# Altium footprint library Assembly3D.PcbLib: 32 footprints (part 1 of 2)
Each footprint in its own frame and in the unit in brackets; x right, y up, seen from the top. Pads: shape width x height; smd on the part's side, far side on the other; paste and mask are expansions set on the pad; w line width, h text height; cw(c..) or ccw(c..) is an arc to the next point about the centre after c.

## BRASS_PIN_M3_H5MM [mm]
3D body "BrassPinM3_H5mm.stp": height 5, standoff 0, extent -2.75,-3.175 2.75,3.175

## BRASS_PIN_M3_H5MM_B6MM [mm]
3D body "BrassPinM3_H5mm+6mm.stp": height 5, standoff -6, extent -2.75,-3.175 2.75,3.175

## BRASS_PIN_M3_H6MM [mm]
3D body "BrassPinM3_H6mm.stp": height 6, standoff 0, extent -2.75,-3.175 2.75,3.175

## BRASS_PIN_M3_H6MM_B6MM [mm]
3D body "BrassPinM3_H6mm+6mm.stp": height 6, standoff -6, extent -2.75,-3.175 2.75,3.175

## BRASS_PIN_M3_H8MM [mm]
3D body "BrassPinM3_H8mm.stp": height 8, standoff 0, extent -2.75,-3.175 2.75,3.175

## BRASS_PIN_M3_H8MM_B6MM [mm]
3D body "BrassPinM3_H8mm+6mm.stp": height 8, standoff -6, extent -2.75,-3.175 2.75,3.175

## BRASS_PIN_M3_H10MM [mm]
3D body "BrassPinM3_H10mm.stp": height 10, standoff 0, extent -2.75,-3.175 2.75,3.175

## BRASS_PIN_M3_H10MM_B6MM [mm]
3D body "BrassPinM3_H10mm+6mm.stp": height 10, standoff -6, extent -2.75,-3.175 2.75,3.175

## BRASS_PIN_M3_H12MM [mm]
3D body "BrassPinM3_H12mm.stp": height 12, standoff 0, extent -2.75,-3.175 2.75,3.175

## BRASS_PIN_M3_H12MM_B6MM [mm]
3D body "BrassPinM3_H12mm+6mm.stp": height 12, standoff -6, extent -2.75,-3.175 2.75,3.175

## BRASS_PIN_M3_H15MM [mm]
3D body "BrassPinM3_H15mm.stp": height 15, standoff 0, extent -2.75,-3.175 2.75,3.175

## BRASS_PIN_M3_H15MM_B6MM [mm]
3D body "BrassPinM3_H15mm+6mm.stp": height 15, standoff -6, extent -2.75,-3.175 2.75,3.175

## BRASS_PIN_M3_H20MM [mm]
3D body "BrassPinM3_H20mm.stp": height 20, standoff 0, extent -2.75,-3.175 2.75,3.175

## BRASS_PIN_M3_H20MM_B6MM [mm]
3D body "BrassPinM3_H20mm+6mm.stp": height 20, standoff -6, extent -2.75,-3.175 2.75,3.175

## BRASS_PIN_M3_H25MM [mm]
3D body "BrassPinM3_H25mm+6mm.stp": height 25, standoff -6, extent -2.75,-3.175 2.75,3.175

## BRASS_PIN_M3_H25MM_B6MM [mm]
3D body "BrassPinM3_H25mm+6mm.stp": height 25, standoff -6, extent -2.75,-3.175 2.75,3.175